# EAGLE library part 6P6C (library rj)
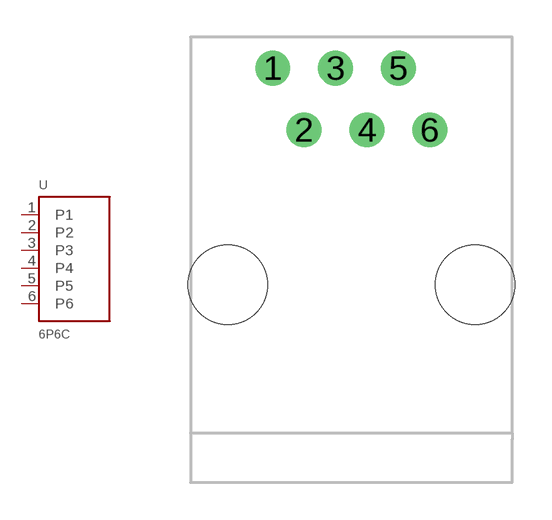
[diagram p2: symbol with the pads of 6P6C; footprint 6P6C]

Designator prefix -

## 6P6C  [6P6C]
1  P1
2  P2
3  P3
4  P4
5  P5
6  P6

## Footprint 6P6C (pad centres in mm)
drill 0.9: 1 -3.175,16.75; 2 -1.905,14.25; 3 -0.635,16.75; 4 0.635,14.25; 5 1.905,16.75; 6 3.175,14.25
hole 3.2 at 5,8
hole 3.2 at -5,8